# Altium schematic symbol library CN HDR 2POS JST XH RA.Schlib: 1 symbol
Pins are listed as number, name and electrical type; pins without a type are passive.

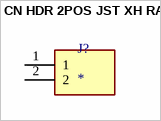
[diagram p0: symbol CN HDR 2POS JST XH RA]

## CN HDR 2POS JST XH RA
designator J?
Connector Header Through Hole 2 position right angle 0.098 _2.50mm_ / JST XH; MP: B2B-XH-A_LF__SN_; MF: JST Sales; Price: None; Package: None; Value: *; SnapEDA_Link: https://www.snapeda.com/parts/B2B-XH-A%28LF%29%28SN%29/JST%20Sales%20America%20Inc./view-part/492310/?ref=snap
footprint JST_S2B-XH-A(LF)(SN)
pins: 1, 2